# EAGLE library part TOROID_TRIFILAR_TRANSFORMER (library rkcustom)
Transformer (having 3 windings) on a Toroid
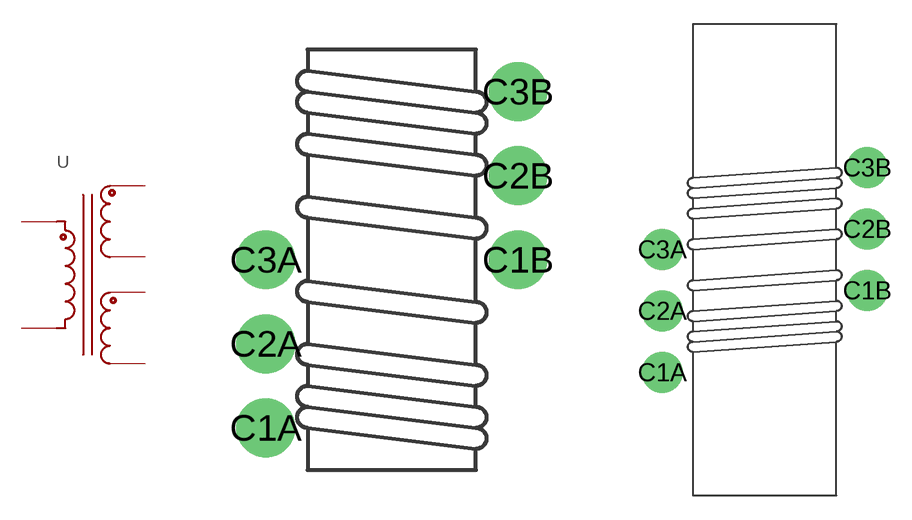
[diagram p7: symbol with the pads of T50_TRIFILAR_TRANSFORMER; footprints T50_TRIFILAR_TRANSFORMER, T94_TRIFILAR_TRANSFORMER]

Designator prefix -

## TOROID_TRIFILAR_TRANSFORMER  [T50_TRIFILAR_TRANSFORMER]
C1A  C1A
C1B  C1B
C2A  C2A
C2B  C2B
C3A  C3A
C3B  C3B

## TOROID_TRIFILAR_TRANSFORMERT94_TT  [T94_TRIFILAR_TRANSFORMER]
Pads as for T50_TRIFILAR_TRANSFORMER

## Footprint T50_TRIFILAR_TRANSFORMER (pad centres in mm)
Transformer (having 3 windings) on a T50 Toroid
drill 0.6 pad 1.778: C1A -3.81,-5.08; C1B 3.81,0; C2A -3.81,-2.54; C2B 3.81,2.54; C3A -3.81,0; C3B 3.81,5.08

## Footprint T94_TRIFILAR_TRANSFORMER (pad centres in mm)
drill 1.1 pad 2.54: C1A -6.35,-6.35; C1B 6.35,-1.27; C2A -6.35,-2.54; C2B 6.35,2.54; C3A -6.35,1.27; C3B 6.35,6.35